# Altium schematic symbol library 1977223-1.SchLib: 1 symbol
Pins are listed as number, name and electrical type; pins without a type are passive.

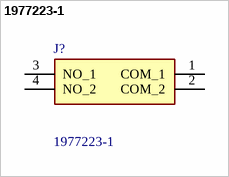
[diagram p0: symbol 1977223-1]

## 1977223-1
designator J?
Body Features: Cover Material Steel | Case Color Brown | Actuator Force 100 G | Actuator Force 3.52 OZ | Actuator Material Nylon | Actuator Color Blue | Actuator Profile Extended | Case Material PPS | Product Orientation Vertical | Configuration Features: Support Bracket Without | Number of Actuators Single | Switch Feedback Type Tactile | Operating Function NO | Configuration (Pole-Throw) Single Pole - Single Throw | ESD Grounding Terminal Without | Ganged With | Contact Features: Contact Current Rating 50; Manufacturer_Name: TE Connectivity; Geometry.Height: 4.44mm; Mouser Part Number: 506-1977223-1; Mouser Price/Stock: https://www.mouser.co.uk/ProductDetail/TE-Connectivity-PB/1977223-1?qs=GE1PmMuiY3gx5ieyg2VO7w%3D%3D; Manufacturer_Part_Number: 1977223-1; Datasheet Link: https://www.te.com/commerce/DocumentDelivery/DDEController?Action=srchrtrv&DocNm=1308111-1_SWITCHES_CORE_PROGRAM_CATALOG&DocType=Catalog%20Section&DocLang=English&PartCntxt=1977223-1&DocFormat=pdf
footprint 19772231
pins: 1 COM_1, 2 COM_2, 3 NO_1, 4 NO_2